# Altium footprint library AP60P20Q.PcbLib: 1 footprints
Each footprint in its own frame and in the unit in brackets; x right, y up, seen from the top. Pads: shape width x height; smd on the part's side, far side on the other; paste and mask are expansions set on the pad; w line width, h text height; cw(c..) or ccw(c..) is an arc to the next point about the centre after c.
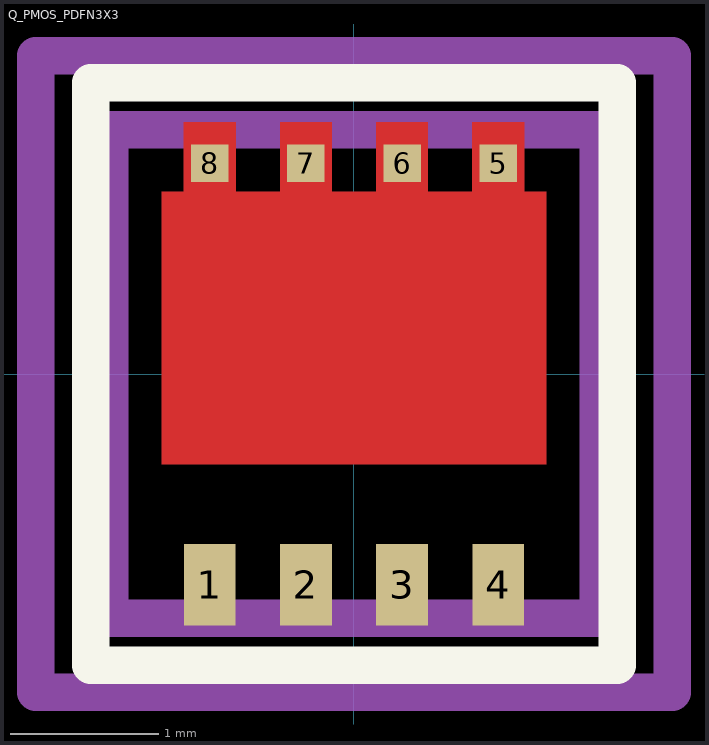
[diagram p0: the footprint, top view; thin cyan lines are the x and y axes]

## Q_PMOS_PDFN3X3 [mm] "-55℃~+150℃ 1 P-Channel 1V 20V 3.6nF 440pF 55nC@4.5V 572pF 60A 80W 9mΩ@2.5V P-Channel PDFN3x3-8L MOSFETs ROHS"
pads (8):
  rect 0.35x0.55 smd: 1(-0.975,-1.425) 2(-0.325,-1.425) 3(0.325,-1.425) 4(0.975,-1.425)
  rect 0.254x0.254 smd mask+0: 5(0.975,1.425) 6(0.325,1.425) 7(-0.325,1.425) 8(-0.975,1.425)
Top Layer:
  region: 1.3,-0.61 1.3,1.23 1.15,1.23 1.15,1.7 0.8,1.7 0.8,1.23 0.5,1.23 0.5,1.7 0.15,1.7 0.15,1.23 -0.15,1.23 -0.15,1.7 -0.5,1.7 -0.5,1.23 -0.8,1.23 -0.8,1.7 -1.15,1.7 -1.15,1.23 -1.3,1.23 -1.3,-0.61
Top Overlay:
  lines w0.254: -1.778,-1.968 1.778,-1.968 1.778,1.968 -1.778,1.968 -1.778,-1.968
Top Assembly:
  lines w0.254: -1.65,-1.65 1.65,-1.65 1.65,1.65 -1.65,1.65 -1.65,-1.65
  text ".Designator" at 0,0.286 h1.52
Top Courtyard (Mech15):
  lines w0.254: -2.15,-2.15 2.15,-2.15 2.15,2.15 -2.15,2.15 -2.15,-2.15
Top Component Center:
  lines w0.051: -0.508,0 0.508,0 ; 0,-0.508 0,0.508